# EAGLE library part JEELABS_MA06-1 (library jlpcb-128)
PIN HEADER
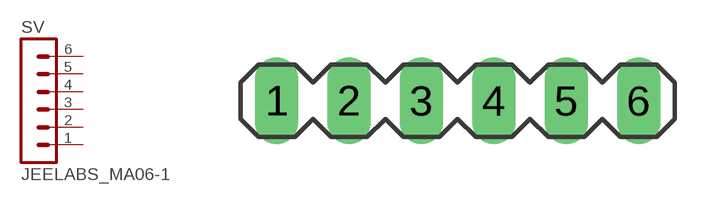
[diagram p2: symbol with the pads of JEELABS_MA06-1; footprint JEELABS_MA06-1]

Designator prefix SV

## JEELABS_MA06-1  [JEELABS_MA06-1]
1  1  pas
2  2  pas
3  3  pas
4  4  pas
5  5  pas
6  6  pas

## Footprint JEELABS_MA06-1 (pad centres in mm)
PIN HEADER
drill 1.016 long: 1 0,0; 2 2.54,0; 3 5.08,0; 4 7.62,0; 5 10.16,0; 6 12.7,0